# EAGLE library part MINI_MEGASHIELD (library arduino)
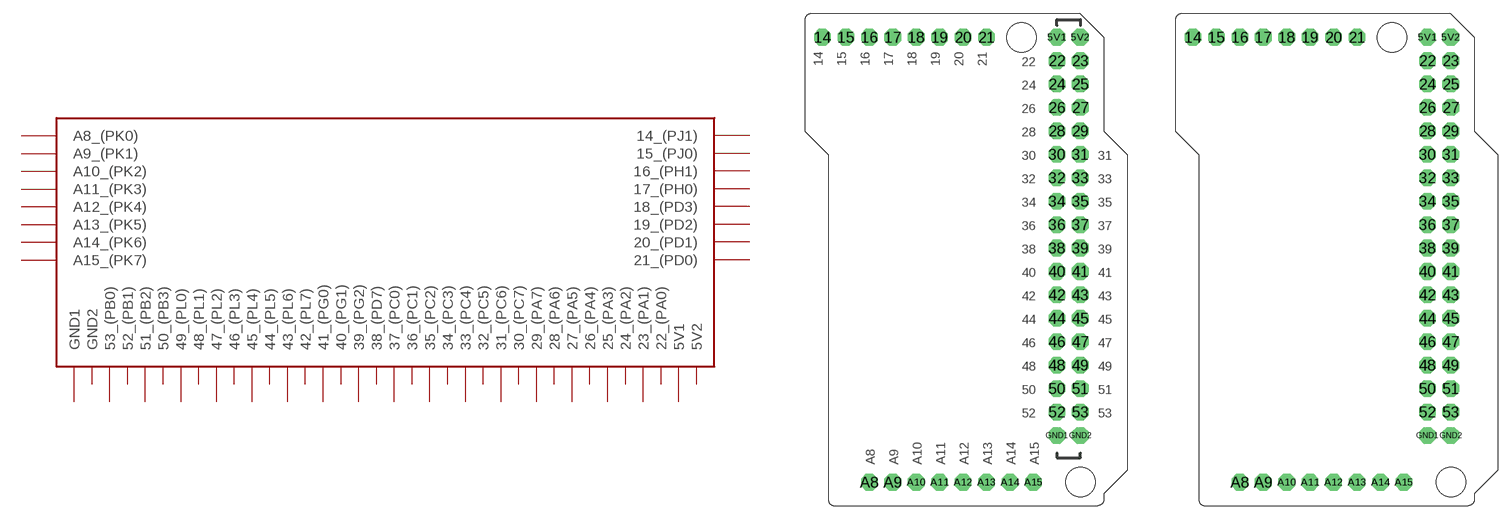
[diagram p1: symbol with the pads of MINI_MEGASHIELD; footprints MINI_MEGASHIELD, MINI_MEGASHIELD_NO_LABEL]

Designator prefix -

## MINI_MEGASHIELD  [MINI_MEGASHIELD]
5V1  5V1
5V2  5V2
14  14_(PJ1)
15  15_(PJ0)
16  16_(PH1)
17  17_(PH0)
18  18_(PD3)
19  19_(PD2)
20  20_(PD1)
21  21_(PD0)
22  22_(PA0)
23  23_(PA1)
24  24_(PA2)
25  25_(PA3)
26  26_(PA4)
27  27_(PA5)
28  28_(PA6)
29  29_(PA7)
30  30_(PC7)
31  31_(PC6)
32  32_(PC5)
33  33_(PC4)
34  34_(PC3)
35  35_(PC2)
36  36_(PC1)
37  37_(PC0)
38  38_(PD7)
39  39_(PG2)
40  40_(PG1)
41  41_(PG0)
42  42_(PL7)
43  43_(PL6)
44  44_(PL5)
45  45_(PL4)
46  46_(PL3)
47  47_(PL2)
48  48_(PL1)
49  49_(PL0)
50  50_(PB3)
51  51_(PB2)
52  52_(PB1)
53  53_(PB0)
A8  A8_(PK0)
A9  A9_(PK1)
A10  A10_(PK2)
A11  A11_(PK3)
A12  A12_(PK4)
A13  A13_(PK5)
A14  A14_(PK6)
A15  A15_(PK7)
GND1  GND1
GND2  GND2

## MINI_MEGASHIELDNO_LABEL  [MINI_MEGASHIELD_NO_LABEL]
Pads as for MINI_MEGASHIELD

## Footprint MINI_MEGASHIELD (pad centres in mm)
drill 1.2 octagon: 5V1 27.94,50.8; 5V2 30.48,50.8; 14 2.54,50.8; 15 5.08,50.8; 16 7.62,50.8; 17 10.16,50.8; 18 12.7,50.8; 19 15.24,50.8; 20 17.78,50.8; 21 20.32,50.8; 22 27.94,48.26; 23 30.48,48.26; 24 27.94,45.72; 25 30.48,45.72; 26 27.94,43.18; 27 30.48,43.18; 28 27.94,40.64; 29 30.48,40.64; 30 27.94,38.1; 31 30.48,38.1; 32 27.94,35.56; 33 30.48,35.56; 34 27.94,33.02; 35 30.48,33.02; 36 27.94,30.48; 37 30.48,30.48; 38 27.94,27.94; 39 30.48,27.94; 40 27.94,25.4; 41 30.48,25.4; 42 27.94,22.86; 43 30.48,22.86; 44 27.94,20.32; 45 30.48,20.32; 46 27.94,17.78; 47 30.48,17.78; 48 27.94,15.24; 49 30.48,15.24; 50 27.94,12.7; 51 30.48,12.7; 52 27.94,10.16; 53 30.48,10.16; A8 7.62,2.54; A9 10.16,2.54; A10 12.7,2.54; A11 15.24,2.54; A12 17.78,2.54; A13 20.32,2.54; A14 22.86,2.54; A15 25.4,2.54; GND1 27.94,7.62; GND2 30.48,7.62
hole 3.2 at 30.48,2.54
hole 3.2 at 24.13,50.8

## Footprint MINI_MEGASHIELD_NO_LABEL (pad centres in mm)
drill 1.2 octagon: 5V1 27.94,50.8; 5V2 30.48,50.8; 14 2.54,50.8; 15 5.08,50.8; 16 7.62,50.8; 17 10.16,50.8; 18 12.7,50.8; 19 15.24,50.8; 20 17.78,50.8; 21 20.32,50.8; 22 27.94,48.26; 23 30.48,48.26; 24 27.94,45.72; 25 30.48,45.72; 26 27.94,43.18; 27 30.48,43.18; 28 27.94,40.64; 29 30.48,40.64; 30 27.94,38.1; 31 30.48,38.1; 32 27.94,35.56; 33 30.48,35.56; 34 27.94,33.02; 35 30.48,33.02; 36 27.94,30.48; 37 30.48,30.48; 38 27.94,27.94; 39 30.48,27.94; 40 27.94,25.4; 41 30.48,25.4; 42 27.94,22.86; 43 30.48,22.86; 44 27.94,20.32; 45 30.48,20.32; 46 27.94,17.78; 47 30.48,17.78; 48 27.94,15.24; 49 30.48,15.24; 50 27.94,12.7; 51 30.48,12.7; 52 27.94,10.16; 53 30.48,10.16; A8 7.62,2.54; A9 10.16,2.54; A10 12.7,2.54; A11 15.24,2.54; A12 17.78,2.54; A13 20.32,2.54; A14 22.86,2.54; A15 25.4,2.54; GND1 27.94,7.62; GND2 30.48,7.62
hole 3.2 at 30.48,2.54
hole 3.2 at 24.13,50.8